# EAGLE library part QUECTEL_EG (library Eagle_CAD_parts)
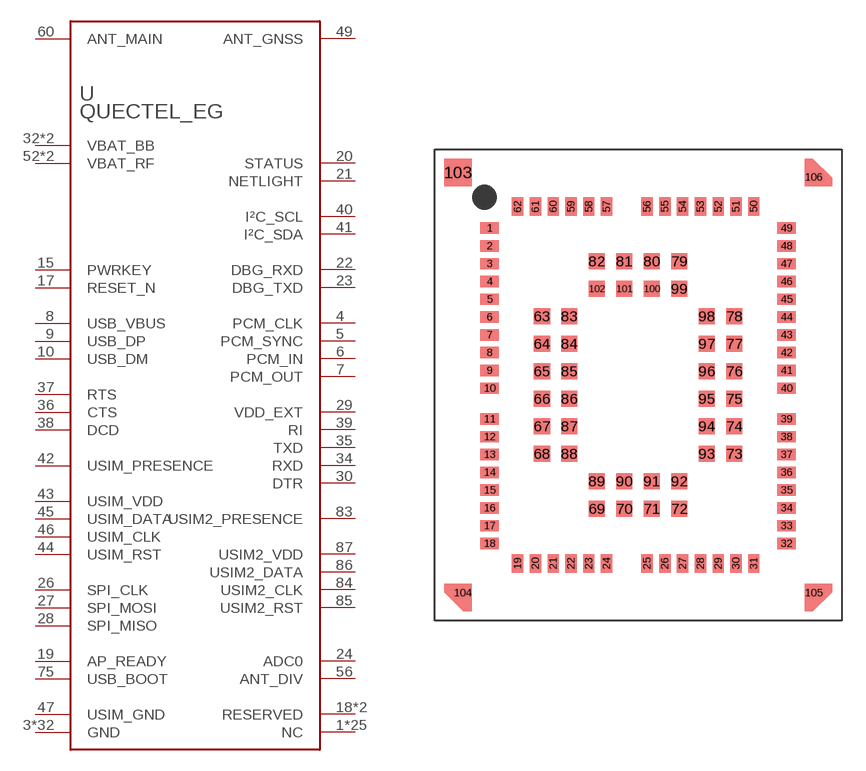
[diagram p68: symbol with the pads of QUECTEL_EG95_PCKG; footprint QUECTEL_EG95_PCKG]

Designator prefix U

## QUECTEL_EG95  [QUECTEL_EG95_PCKG]
1  NC
2  NC
3  GND  pwr
4  PCM_CLK  out
5  PCM_SYNC  out
6  PCM_IN  in
7  PCM_OUT  out
8  USB_VBUS  pwr
9  USB_DP
10  USB_DM
11  NC
12  NC
13  NC
14  NC
15  PWRKEY  in
16  NC
17  RESET_N  in
18  RESERVED  nc
19  AP_READY  in
20  STATUS  out
21  NETLIGHT  out
22  DBG_RXD  in
23  DBG_TXD  out
24  ADC0  in
25  RESERVED  nc
26  SPI_CLK  out
27  SPI_MOSI  in
28  SPI_MISO  in
29  VDD_EXT  sup
30  DTR  in
31  GND  pwr
32  VBAT_BB  pwr
33  VBAT_BB  pwr
34  RXD  in
35  TXD  out
36  CTS  out
37  RTS  in
38  DCD  out
39  RI  out
40  I²C_SCL  oc
41  I²C_SDA  oc
42  USIM_PRESENCE  in
43  USIM_VDD  pwr
44  USIM_RST  out
45  USIM_DATA
46  USIM_CLK  out
47  USIM_GND  pwr
48  GND  pwr
49  ANT_GNSS  in
50  GND  pwr
51  NC
52  VBAT_RF  pwr
53  VBAT_RF  pwr
54  GND  pwr
55  GND  pwr
56  ANT_DIV
57  NC
58  GND  pwr
59  GND  pwr
60  ANT_MAIN
61  GND  pwr
62  GND  pwr
63  NC
64  NC
65  NC
66  NC
67  GND  pwr
68  GND  pwr
69  GND  pwr
70  GND  pwr
71  GND  pwr
72  GND  pwr
73  GND  pwr
74  GND  pwr
75  USB_BOOT  in
76  NC
77  NC
78  NC
79  GND  pwr
80  GND  pwr
81  GND  pwr
82  GND  pwr
83  USIM2_PRESENCE  in
84  USIM2_CLK  out
85  USIM2_RST  in
86  USIM2_DATA
87  USIM2_VDD
88  NC
89  GND  pwr
90  GND  pwr
91  GND  pwr
92  NC
93  NC
94  NC
95  NC
96  NC
97  NC
98  NC
99  NC
100  GND  pwr
101  GND  pwr
102  GND  pwr
103  GND  pwr
104  GND  pwr
105  GND  pwr
106  GND  pwr

## Footprint QUECTEL_EG95_PCKG (pad centres in mm)
smd 1.15 x 0.7: 1 -9.18,9.7; 2 -9.18,8.6; 3 -9.18,7.5; 4 -9.18,6.4; 5 -9.18,5.3; 6 -9.18,4.2; 7 -9.18,3.1; 8 -9.18,2; 9 -9.18,0.9; 10 -9.18,-0.2; 11 -9.18,-2.1; 12 -9.18,-3.2; 13 -9.18,-4.3; 14 -9.18,-5.4; 15 -9.18,-6.5; 16 -9.18,-7.6; 17 -9.18,-8.7; 18 -9.18,-9.8; 32 9.18,-9.8; 33 9.18,-8.7; 34 9.18,-7.6; 35 9.18,-6.5; 36 9.18,-5.4; 37 9.18,-4.3; 38 9.18,-3.2; 39 9.18,-2.1; 40 9.18,-0.2; 41 9.18,0.9; 42 9.18,2; 43 9.18,3.1; 44 9.18,4.2; 45 9.18,5.3; 46 9.18,6.4; 47 9.18,7.5; 48 9.18,8.6; 49 9.18,9.7
smd 0.7 x 1.15: 19 -7.45,-11.03; 20 -6.35,-11.03; 21 -5.25,-11.03; 22 -4.15,-11.03; 23 -3.05,-11.03; 24 -1.95,-11.03; 25 0.55,-11.03; 26 1.65,-11.03; 27 2.75,-11.03; 28 3.85,-11.03; 29 4.95,-11.03; 30 6.05,-11.03; 31 7.15,-11.03; 50 7.15,11.03; 51 6.05,11.03; 52 4.95,11.03; 53 3.85,11.03; 54 2.75,11.03; 55 1.65,11.03; 56 0.55,11.03; 57 -1.95,11.03; 58 -3.05,11.03; 59 -4.15,11.03; 60 -5.25,11.03; 61 -6.35,11.03; 62 -7.45,11.03
smd 1 x 1: 63 -5.95,4.25; 64 -5.95,2.55; 65 -5.95,0.85; 66 -5.95,-0.85; 67 -5.95,-2.55; 68 -5.95,-4.25; 69 -2.55,-7.65; 70 -0.85,-7.65; 71 0.85,-7.65; 72 2.55,-7.65; 73 5.95,-4.25; 74 5.95,-2.55; 75 5.95,-0.85; 76 5.95,0.85; 77 5.95,2.55; 78 5.95,4.25; 79 2.55,7.65; 80 0.85,7.65; 81 -0.85,7.65; 82 -2.55,7.65; 83 -4.25,4.25; 84 -4.25,2.55; 85 -4.25,0.85; 86 -4.25,-0.85; 87 -4.25,-2.55; 88 -4.25,-4.25; 89 -2.55,-5.95; 90 -0.85,-5.95; 91 0.85,-5.95; 92 2.55,-5.95; 93 4.25,-4.25; 94 4.25,-2.55; 95 4.25,-0.85; 96 4.25,0.85; 97 4.25,2.55; 98 4.25,4.25; 99 2.55,5.95; 100 0.85,5.95; 101 -0.85,5.95; 102 -2.55,5.95
smd 1.7 x 1.7: 103 -11.15,13.15
smd 1.1 x 1.1: 104 -10.85,-12.85; 105 10.85,-12.85; 106 10.85,12.85